# Altium footprint library SamacSys.PcbLib: 89 footprints (part 6 of 6)
Each footprint in its own frame and in the unit in brackets; x right, y up, seen from the top. Pads: shape width x height; smd on the part's side, far side on the other; paste and mask are expansions set on the pad; w line width, h text height; cw(c..) or ccw(c..) is an arc to the next point about the centre after c.
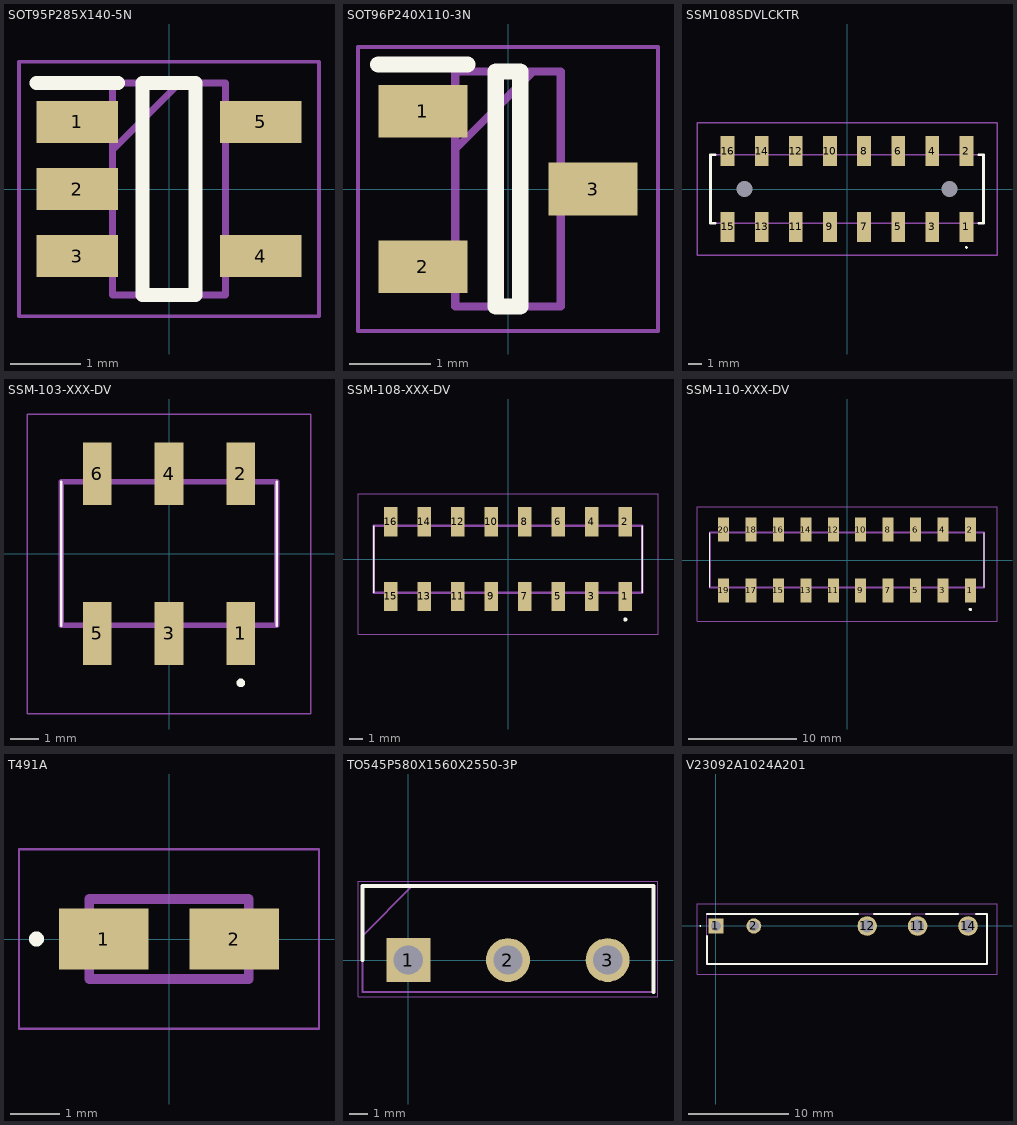
[diagram p5: the footprints below, top view; thin cyan lines are the x and y axes]

## SOT95P285X140-5N [mm]
pads (5):
  rect 1.15x0.6 smd: 1(-1.3,0.95) 2(-1.3,0) 3(-1.3,-0.95) 4(1.3,-0.95) 5(1.3,0.95)
Top Overlay:
  lines w0.2: -1.875,1.5 -0.725,1.5 ; -0.375,-1.5 -0.375,1.5 0.375,1.5 0.375,-1.5 -0.375,-1.5
Mechanical 13:
  lines w0.1: -0.8,0.55 0.15,1.5 ; -0.8,-1.5 -0.8,1.5 0.8,1.5 0.8,-1.5 -0.8,-1.5
Mechanical 15:
  lines w0.05: -2.125,-1.8 -2.125,1.8 2.125,1.8 2.125,-1.8 -2.125,-1.8
3D body "AP2112K-3.3TRG1.stp": height 1.4, standoff 0, extent -1.425,-1.5 1.425,1.5

## SOT96P240X110-3N [mm]
pads (3):
  rect 1.1x0.65 smd: 1(-1.05,0.96) 2(-1.05,-0.96) 3(1.05,0)
Top Overlay:
  lines w0.2: -1.6,1.535 -0.5,1.535 ; -0.15,-1.45 -0.15,1.45 0.15,1.45 0.15,-1.45 -0.15,-1.45
Mechanical 13:
  lines w0.1: -0.65,0.49 0.31,1.45 ; -0.65,-1.45 -0.65,1.45 0.65,1.45 0.65,-1.45 -0.65,-1.45
Mechanical 15:
  lines w0.05: -1.85,-1.75 -1.85,1.75 1.85,1.75 1.85,-1.75 -1.85,-1.75
3D body "AZ23C6V8-7-F.stp": height 1.1, standoff 0, extent -1.326,-1.5 1.326,1.5

## SSM108SDVLCKTR [mm]
pads (18):
  rect 1.02x2.22 smd: 1(8.89,-2.825) 2(8.89,2.825) 3(6.35,-2.825) 4(6.35,2.825) 5(3.81,-2.825) 6(3.81,2.825) 7(1.27,-2.825) 8(1.27,2.825) 9(-1.27,-2.825) 10(-1.27,2.825) 11(-3.81,-2.825) 12(-3.81,2.825) 13(-6.35,-2.825) 14(-6.35,2.825) 15(-8.89,-2.825) 16(-8.89,2.825)
  round 0.595 hole 1.19 unplated: MH1(7.62,0) MH2(-7.62,0)
Top Overlay:
  lines w0.1: 8.89,-4.4 ccw(c8.89,-4.35) 8.89,-4.3 ccw(c8.89,-4.35) 8.89,-4.4
  lines w0.2: -9.8,-2.54 -10.16,-2.54 -10.16,2.54 -9.8,2.54 ; 9.8,-2.54 10.16,-2.54 10.16,2.54 9.8,2.54
Mechanical 13:
  lines w0.1: -10.16,-2.54 -10.16,2.54 10.16,2.54 10.16,-2.54 -10.16,-2.54
Mechanical 15:
  lines w0.1: -11.16,-4.935 -11.16,4.935 11.16,4.935 11.16,-4.935 -11.16,-4.935
3D body "SSM-108-S-DV-LC-K-TR.stp": height 7.56, standoff -1.7, extent -10.16,-3.833 10.16,3.833

## SSM-103-XXX-DV [mm]
pads (6):
  rect 1.02x2.22 smd: 1(2.54,-2.825) 2(2.54,2.825) 3(0,-2.825) 4(0,2.825) 5(-2.54,-2.825) 6(-2.54,2.825)
Top Overlay:
  circle w0.2: c2.54,-4.575 r0.05
  lines w0.1: -3.81,-2.54 -3.81,2.54 ; 3.81,-2.54 3.81,2.54
Mechanical 13:
  lines w0.2: -3.81,-2.54 -3.81,2.54 3.81,2.54 3.81,-2.54 -3.81,-2.54
Mechanical 15:
  lines w0.05: -5.01,-5.675 -5.01,4.935 5.01,4.935 5.01,-5.675 -5.01,-5.675
3D body "SSM-103-S-DV.stp": height 7.44, standoff 0.03, extent -3.81,-3.518 3.81,3.518

## SSM-108-XXX-DV [mm]
pads (16):
  rect 1.02x2.22 smd: 1(8.89,-2.825) 2(8.89,2.825) 3(6.35,-2.825) 4(6.35,2.825) 5(3.81,-2.825) 6(3.81,2.825) 7(1.27,-2.825) 8(1.27,2.825) 9(-1.27,-2.825) 10(-1.27,2.825) 11(-3.81,-2.825) 12(-3.81,2.825) 13(-6.35,-2.825) 14(-6.35,2.825) 15(-8.89,-2.825) 16(-8.89,2.825)
Top Overlay:
  circle w0.2: c8.89,-4.575 r0.05
  lines w0.1: -10.16,-2.54 -10.16,2.54 ; 10.16,-2.54 10.16,2.54
Mechanical 13:
  lines w0.2: -10.16,-2.54 -10.16,2.54 10.16,2.54 10.16,-2.54 -10.16,-2.54
Mechanical 15:
  lines w0.05: -11.36,-5.675 -11.36,4.935 11.36,4.935 11.36,-5.675 -11.36,-5.675
3D body "SSM-108-S-DV.stp": height 7.42, standoff 0, extent -10.16,-3.888 10.16,3.148

## SSM-110-XXX-DV [mm]
pads (20):
  rect 1.02x2.22 smd: 1(11.43,-2.825) 2(11.43,2.825) 3(8.89,-2.825) 4(8.89,2.825) 5(6.35,-2.825) 6(6.35,2.825) 7(3.81,-2.825) 8(3.81,2.825) 9(1.27,-2.825) 10(1.27,2.825) 11(-1.27,-2.825) 12(-1.27,2.825) 13(-3.81,-2.825) 14(-3.81,2.825) 15(-6.35,-2.825) 16(-6.35,2.825) 17(-8.89,-2.825) 18(-8.89,2.825) 19(-11.43,-2.825) 20(-11.43,2.825)
Top Overlay:
  circle w0.2: c11.43,-4.575 r0.05
  lines w0.1: -12.7,-2.54 -12.7,2.54 ; 12.7,-2.54 12.7,2.54
Mechanical 13:
  lines w0.2: -12.7,-2.54 -12.7,2.54 12.7,2.54 12.7,-2.54 -12.7,-2.54
Mechanical 15:
  lines w0.05: -13.9,-5.675 -13.9,4.935 13.9,4.935 13.9,-5.675 -13.9,-5.675
3D body "SSM-110-S-DV.stp": height 7.44, standoff 0.03, extent -12.7,-3.518 12.7,3.518

## T491A [mm]
pads (2):
  rect 1.8x1.23 smd: 1(-1.31,0) 2(1.31,0)
Top Overlay:
  circle w0.2: c-2.66,0 r0.05
Mechanical 13:
  lines w0.2: -1.6,-0.8 -1.6,0.8 1.6,0.8 1.6,-0.8 -1.6,-0.8
Mechanical 15:
  lines w0.05: -3.01,-1.8 -3.01,1.8 3.01,1.8 3.01,-1.8 -3.01,-1.8
3D body "T491A106K010AT7280.stp": height 1.81, standoff 0, extent -1.7,-0.9 1.7,0.9

## TO545P580X1560X2550-3P [mm]
pads (3):
  rect 2.4x2.4 hole 1.6: 1(0,0)
  round 2.4 hole 1.6: 2(5.45,0) 3(10.9,0)
Top Overlay:
  lines w0.2: -2.5,0 -2.5,4.05 13.4,4.05 13.4,-1.75
Mechanical 13:
  lines w0.1: -2.5,1.325 0.225,4.05 ; -2.5,-1.75 -2.5,4.05 13.4,4.05 13.4,-1.75 -2.5,-1.75
Mechanical 15:
  lines w0.05: -2.75,-2 -2.75,4.3 13.65,4.3 13.65,-2 -2.75,-2
3D body "2SK2225E.stp": height 24.9, standoff -39.8, extent -2.35,-1.75 13.25,4.05

## V23092A1024A201 [mm]
pads (5):
  rect 1.5x1.5 hole 1: 1(0,0)
  round 1.5 hole 1: 2(3.78,0)
  round 1.95 hole 1.3: 11(20.16,0) 12(15.12,0) 14(25.2,0)
Top Overlay:
  lines w0.1: -1.6,0 cw(c-1.55,0) -1.5,0 cw(c-1.55,0) -1.6,0
  lines w0.2: -0.9,-1 -0.9,-3.8 27.1,-3.8 27.1,1.2 26,1.2 ; -0.9,1.2 14.2,1.2 ; 15.8,1.2 19.4,1.2 ; 21,1.2 24.2,1.2
Mechanical 13:
  lines w0.1: -0.9,-3.8 -0.9,1.2 27.1,1.2 27.1,-3.8 -0.9,-3.8
Mechanical 15:
  lines w0.1: -1.9,-4.8 -1.9,2.2 28.1,2.2 28.1,-4.8 -1.9,-4.8
3D body "V23092-A1024-A201.stp": height 14.84, standoff -3.66, extent -0.9,-3.8 27.1,1.2